# EAGLE library part NUF4403MNT1G (library Filters)
FILTER RC(PI) 100 OHM/17PF SMD Manufacturer's datasheet <https://www.onsemi.com/pub/Collateral/NUF4403MN-D.PDF>
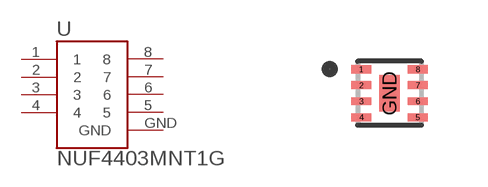
[diagram p6: symbol with the pads of NUF4403MNT1G; footprint NUF4403MNT1G]

Designator prefix U

## NUF4403MNT1G (CREATED_BY: PCBLayout.com; DIGIKEY_PN: 488-NUF4403MNT1GTR-ND; MANUFACTURER: ON Semiconductor; MPN: NUF4403MNT1G; PACKAGE: 8-VFDFN)  [NUF4403MNT1G]
1  1  pas
2  2  pas
3  3  pas
4  4  pas
5  5  pas
6  6  pas
7  7  pas
8  8  pas
GND  GND  pwr

## Footprint NUF4403MNT1G (pad centres in mm)
smd 0.49 x 0.2: 1 -0.707,0.6; 2 -0.707,0.2; 3 -0.707,-0.2; 4 -0.707,-0.6; 5 0.707,-0.6; 6 0.707,-0.2; 7 0.707,0.2; 8 0.707,0.6
smd 0.502 x 0.902: GND 0,0